# EAGLE library part SPI_TFT_DISPLAY_TOUCH (library displays)
SPI TFT Display with touch Connector for the cheap 2.4"/2.8" Serial SPI TFT displays with touch found on eBay.
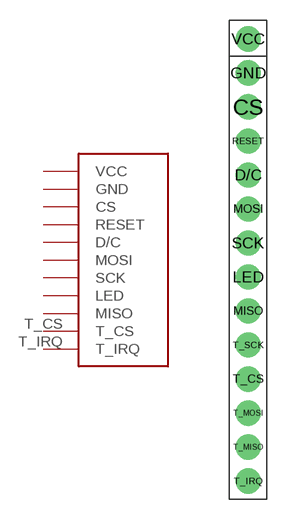
[diagram p1: symbol with the pads of SPI_DISPLAY_TOUCH; footprint SPI_DISPLAY_TOUCH]

Designator prefix J

## SPI_TFT_DISPLAY_TOUCH  [SPI_DISPLAY_TOUCH]
CS  CS
D/C  D/C
GND  GND  pwr
LED  LED
MISO  MISO
MOSI  MOSI
RESET  RESET
SCK  SCK
T_CS  T_CS
T_IRQ  T_IRQ
T_MISO  MISO
T_MOSI  MOSI
T_SCK  SCK
VCC  VCC  pwr

## Footprint SPI_DISPLAY_TOUCH (pad centres in mm)
drill 1.016 pad 1.88: CS 0,7.62; D/C 0,2.54; GND 0,10.16; LED 0,-5.08; MISO 0,-7.62; MOSI 0,0; RESET 0,5.08; SCK 0,-2.54; T_CS 0,-12.7; T_IRQ 0,-20.32; T_MISO 0,-17.78; T_MOSI 0,-15.24; T_SCK 0,-10.16; VCC 0,12.7